# Altium schematic symbol library Circuit Protection.SchLib: 4 symbols
Pins are listed as number, name and electrical type; pins without a type are passive.

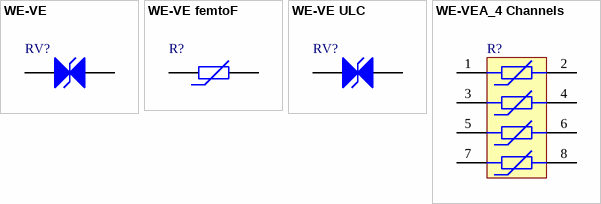
[diagram p0: symbols WE-VE to WE-VEA_4 Channels]

## WE-VE
designator RV?
pins: 1, 2

## WE-VE femtoF
designator R?
pins: 1, 2

## WE-VE ULC
designator RV?
pins: 1, 2

## WE-VEA_4 Channels
designator R?
pins: 1, 2, 3, 4, 5, 6, 7, 8